# Altium schematic symbol library T8Q144C4_Library.SchLib: 3 symbols
Pins are listed as number, name and electrical type; pins without a type are passive.

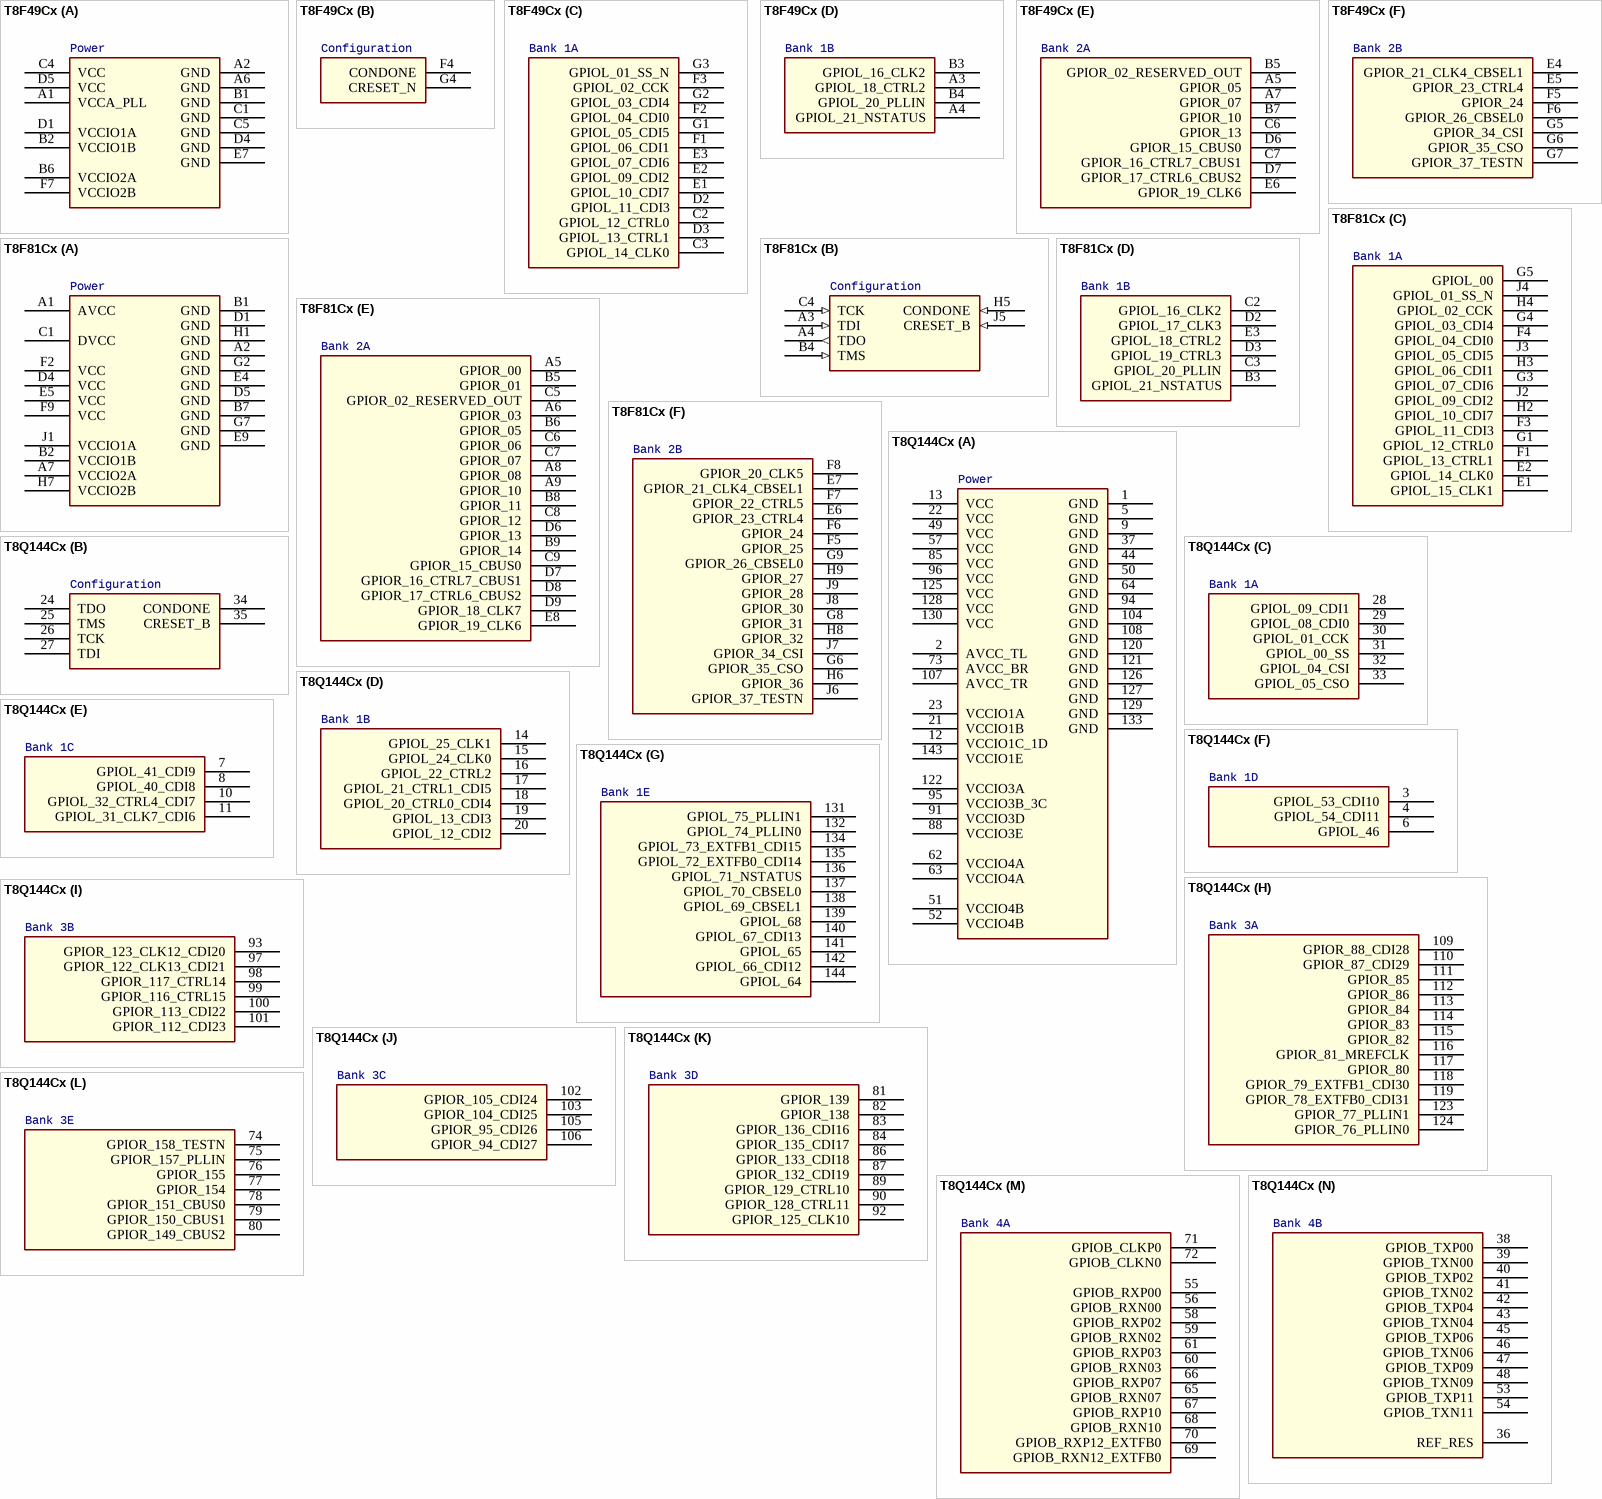
[diagram p0: symbols T8F49Cx to T8Q144Cx]

## T8F49Cx
designator U?
Trion BGA49  8K LE Device; MFG1: Efinix; MFG1 PN: T8F49C; SWAP_INFO: (S1+S2+S3+S4+S5+S6); SPLIT_INST: TRUE; Part Type: IC; Manufacturer: Efinix
footprint FBGA49
part A pins: A1 VCCA_PLL (power), A2 GND (power), A6 GND (power), B1 GND (power), B2 VCCIO1B (power), B6 VCCIO2A (power), C1 GND (power), C4 VCC (power), C5 GND (power), D1 VCCIO1A (power), D4 GND (power), D5 VCC (power), E7 GND (power), F7 VCCIO2B (power)
part B pins: F4 CONDONE, G4 CRESET_N
part C pins: C2 GPIOL_12_CTRL0, C3 GPIOL_14_CLK0, D2 GPIOL_11_CDI3, D3 GPIOL_13_CTRL1, E1 GPIOL_10_CDI7, E2 GPIOL_09_CDI2, E3 GPIOL_07_CDI6, F1 GPIOL_06_CDI1, F2 GPIOL_04_CDI0, F3 GPIOL_02_CCK, G1 GPIOL_05_CDI5, G2 GPIOL_03_CDI4, G3 GPIOL_01_SS_N
part D pins: A3 GPIOL_18_CTRL2, A4 GPIOL_21_NSTATUS, B3 GPIOL_16_CLK2, B4 GPIOL_20_PLLIN
part E pins: A5 GPIOR_05, A7 GPIOR_07, B5 GPIOR_02_RESERVED_OUT, B7 GPIOR_10, C6 GPIOR_13, C7 GPIOR_16_CTRL7_CBUS1, D6 GPIOR_15_CBUS0, D7 GPIOR_17_CTRL6_CBUS2, E6 GPIOR_19_CLK6
part F pins: E4 GPIOR_21_CLK4_CBSEL1, E5 GPIOR_23_CTRL4, F5 GPIOR_24, F6 GPIOR_26_CBSEL0, G5 GPIOR_34_CSI, G6 GPIOR_35_CSO, G7 GPIOR_37_TESTN
part A text: Power
part B text: Configuration
part C text: Bank 1A
part D text: Bank 1B
part E text: Bank 2A
part F text: Bank 2B

## T8F81Cx
designator U?
Trion BGA81  8K LE Device; MFG1: Efinix; MFG1 PN: T8F81C; SWAP_INFO: (S1+S2+S3+S4+S5+S6); SPLIT_INST: TRUE; Part Type: IC; Manufacturer: Efinix
footprint FBGA81
part A pins: A1 AVCC (power), A2 GND (power), A7 VCCIO2A (power), B1 GND (power), B2 VCCIO1B (power), B7 GND (power), C1 DVCC (power), D1 GND (power), D4 VCC (power), D5 GND (power), E4 GND (power), E5 VCC (power), E9 GND (power), F2 VCC (power), F9 VCC (power), G2 GND (power), G7 GND (power), H1 GND (power), H7 VCCIO2B (power), J1 VCCIO1A (power)
part B pins: A3 TDI (in), A4 TDO (out), B4 TMS (in), C4 TCK (in), H5 CONDONE (in), J5 CRESET_B (in)
part C pins: E1 GPIOL_15_CLK1, E2 GPIOL_14_CLK0, F1 GPIOL_13_CTRL1, F3 GPIOL_11_CDI3, F4 GPIOL_04_CDI0, G1 GPIOL_12_CTRL0, G3 GPIOL_07_CDI6, G4 GPIOL_03_CDI4, G5 GPIOL_00, H2 GPIOL_10_CDI7, H3 GPIOL_06_CDI1, H4 GPIOL_02_CCK, J2 GPIOL_09_CDI2, J3 GPIOL_05_CDI5, J4 GPIOL_01_SS_N
part D pins: B3 GPIOL_21_NSTATUS, C2 GPIOL_16_CLK2, C3 GPIOL_20_PLLIN, D2 GPIOL_17_CLK3, D3 GPIOL_19_CTRL3, E3 GPIOL_18_CTRL2
part E pins: A5 GPIOR_00, A6 GPIOR_03, A8 GPIOR_08, A9 GPIOR_10, B5 GPIOR_01, B6 GPIOR_05, B8 GPIOR_11, B9 GPIOR_14, C5 GPIOR_02_RESERVED_OUT, C6 GPIOR_06, C7 GPIOR_07, C8 GPIOR_12, C9 GPIOR_15_CBUS0, D6 GPIOR_13, D7 GPIOR_16_CTRL7_CBUS1, D8 GPIOR_17_CTRL6_CBUS2, D9 GPIOR_18_CLK7, E8 GPIOR_19_CLK6
part F pins: E6 GPIOR_23_CTRL4, E7 GPIOR_21_CLK4_CBSEL1, F5 GPIOR_25, F6 GPIOR_24, F7 GPIOR_22_CTRL5, F8 GPIOR_20_CLK5, G6 GPIOR_35_CSO, G8 GPIOR_31, G9 GPIOR_26_CBSEL0, H6 GPIOR_36, H8 GPIOR_32, H9 GPIOR_27, J6 GPIOR_37_TESTN, J7 GPIOR_34_CSI, J8 GPIOR_30, J9 GPIOR_28
part A text: Power
part B text: Configuration
part C text: Bank 1A
part D text: Bank 1B
part E text: Bank 2A
part F text: Bank 2B

## T8Q144Cx
designator U?
SPLIT_INST: TRUE; SWAP_INFO: (S1+S2+S3+S4+S5+S6+S7+S8+S9+S10+S11+S12+S13+S14)
footprint LQFP144
part A pins: 1 GND (power), 2 AVCC_TL (power), 5 GND (power), 9 GND (power), 12 VCCIO1C_1D (power), 13 VCC (power), 21 VCCIO1B (power), 22 VCC (power), 23 VCCIO1A (power), 37 GND (power), 44 GND (power), 49 VCC (power), 50 GND (power), 51 VCCIO4B (power), 52 VCCIO4B (power), 57 VCC (power), 62 VCCIO4A (power), 63 VCCIO4A (power), 64 GND (power), 73 AVCC_BR (power), 85 VCC (power), 88 VCCIO3E (power), 91 VCCIO3D (power), 94 GND (power), 95 VCCIO3B_3C (power), 96 VCC (power), 104 GND (power), 107 AVCC_TR (power), 108 GND (power), 120 GND (power), 121 GND (power), 122 VCCIO3A (power), 125 VCC (power), 126 GND (power), 127 GND (power), 128 VCC (power), 129 GND (power), 130 VCC (power), 133 GND (power), 143 VCCIO1E (power)
part B pins: 24 TDO, 25 TMS, 26 TCK, 27 TDI, 34 CONDONE, 35 CRESET_B
part C pins: 28 GPIOL_09_CDI1, 29 GPIOL_08_CDI0, 30 GPIOL_01_CCK, 31 GPIOL_00_SS, 32 GPIOL_04_CSI, 33 GPIOL_05_CSO
part D pins: 14 GPIOL_25_CLK1, 15 GPIOL_24_CLK0, 16 GPIOL_22_CTRL2, 17 GPIOL_21_CTRL1_CDI5, 18 GPIOL_20_CTRL0_CDI4, 19 GPIOL_13_CDI3, 20 GPIOL_12_CDI2
part E pins: 7 GPIOL_41_CDI9, 8 GPIOL_40_CDI8, 10 GPIOL_32_CTRL4_CDI7, 11 GPIOL_31_CLK7_CDI6
part F pins: 3 GPIOL_53_CDI10, 4 GPIOL_54_CDI11, 6 GPIOL_46
part G pins: 131 GPIOL_75_PLLIN1, 132 GPIOL_74_PLLIN0, 134 GPIOL_73_EXTFB1_CDI15, 135 GPIOL_72_EXTFB0_CDI14, 136 GPIOL_71_NSTATUS, 137 GPIOL_70_CBSEL0, 138 GPIOL_69_CBSEL1, 139 GPIOL_68, 140 GPIOL_67_CDI13, 141 GPIOL_65, 142 GPIOL_66_CDI12, 144 GPIOL_64
part H pins: 109 GPIOR_88_CDI28, 110 GPIOR_87_CDI29, 111 GPIOR_85, 112 GPIOR_86, 113 GPIOR_84, 114 GPIOR_83, 115 GPIOR_82, 116 GPIOR_81_MREFCLK, 117 GPIOR_80, 118 GPIOR_79_EXTFB1_CDI30, 119 GPIOR_78_EXTFB0_CDI31, 123 GPIOR_77_PLLIN1, 124 GPIOR_76_PLLIN0
part I pins: 93 GPIOR_123_CLK12_CDI20, 97 GPIOR_122_CLK13_CDI21, 98 GPIOR_117_CTRL14, 99 GPIOR_116_CTRL15, 100 GPIOR_113_CDI22, 101 GPIOR_112_CDI23
part J pins: 102 GPIOR_105_CDI24, 103 GPIOR_104_CDI25, 105 GPIOR_95_CDI26, 106 GPIOR_94_CDI27
part K pins: 81 GPIOR_139, 82 GPIOR_138, 83 GPIOR_136_CDI16, 84 GPIOR_135_CDI17, 86 GPIOR_133_CDI18, 87 GPIOR_132_CDI19, 89 GPIOR_129_CTRL10, 90 GPIOR_128_CTRL11, 92 GPIOR_125_CLK10
part L pins: 74 GPIOR_158_TESTN, 75 GPIOR_157_PLLIN, 76 GPIOR_155, 77 GPIOR_154, 78 GPIOR_151_CBUS0, 79 GPIOR_150_CBUS1, 80 GPIOR_149_CBUS2
part M pins: 55 GPIOB_RXP00, 56 GPIOB_RXN00, 58 GPIOB_RXP02, 59 GPIOB_RXN02, 60 GPIOB_RXN03, 61 GPIOB_RXP03, 65 GPIOB_RXN07, 66 GPIOB_RXP07, 67 GPIOB_RXP10, 68 GPIOB_RXN10, 69 GPIOB_RXN12_EXTFB0, 70 GPIOB_RXP12_EXTFB0, 71 GPIOB_CLKP0, 72 GPIOB_CLKN0
part N pins: 36 REF_RES, 38 GPIOB_TXP00, 39 GPIOB_TXN00, 40 GPIOB_TXP02, 41 GPIOB_TXN02, 42 GPIOB_TXP04, 43 GPIOB_TXN04, 45 GPIOB_TXP06, 46 GPIOB_TXN06, 47 GPIOB_TXP09, 48 GPIOB_TXN09, 53 GPIOB_TXP11, 54 GPIOB_TXN11
part A text: Power
part B text: Configuration
part C text: Bank 1A
part D text: Bank 1B
part E text: Bank 1C
part F text: Bank 1D
part G text: Bank 1E
part H text: Bank 3A
part I text: Bank 3B
part J text: Bank 3C
part K text: Bank 3D
part L text: Bank 3E
part M text: Bank 4A
part N text: Bank 4B